# EAGLE library part USB2UART (library PIECES)
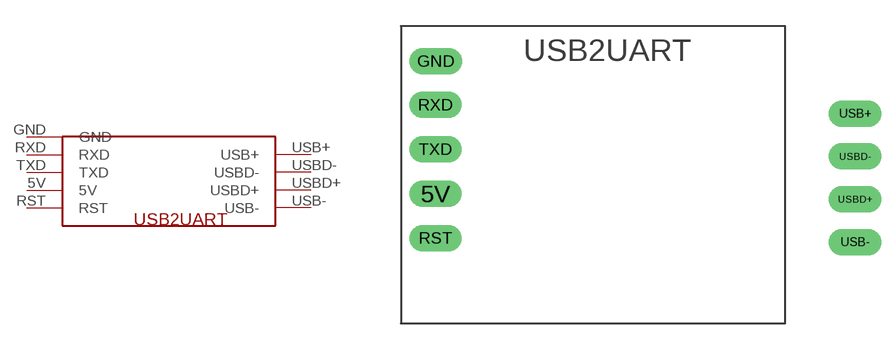
[diagram p0: symbol with the pads of USB2UART; footprint USB2UART]

Designator prefix -

## USB2UART  [USB2UART]
5V  5V
GND  GND
RST  RST
RXD  RXD
TXD  TXD
USB+  USB+
USB-  USB-
USBD+  USBD+
USBD-  USBD-

## Footprint USB2UART (pad centres in mm)
drill 1 long: 5V -27.94,-5.08; GND -27.915,2.5; RST -27.94,-7.62; RXD -27.94,0; TXD -27.94,-2.54; USB+ -3.915,-0.5; USB- -3.915,-7.85; USBD+ -3.915,-5.4; USBD- -3.915,-2.95